# Altium schematic symbol library type_c.SchLib: 1 symbol
Pins are listed as number, name and electrical type; pins without a type are passive.

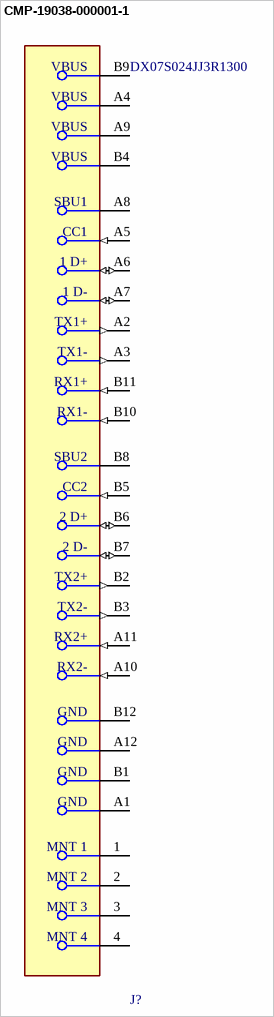
[diagram p0: symbol CMP-19038-000001-1]

## CMP-19038-000001-1
designator J?, comment DX07S024JJ3R1300
CONN RCP USB3.1 TYPEC 24P SMD RA; Connector Type: USB; Gender: Receptacle; Number of Contacts: 24; Features: Shielded; Mount: Surface Mount; Packaging: Tape and Reel
footprint FP-DX07S024JJ3R1300-MFG
pins: 1 MNT 1, 2 MNT 2, 3 MNT 3, 4 MNT 4, A1 GND, A2 TX1+ (out), A3 TX1- (out), A4 VBUS (power), A5 CC1 (in), A6 1 D+ (io), A7 1 D- (io), A8 SBU1, A9 VBUS (power), A10 RX2- (in), A11 RX2+ (in), A12 GND, B1 GND, B2 TX2+ (out), B3 TX2- (out), B4 VBUS (power), B5 CC2 (in), B6 2 D+ (io), B7 2 D- (io), B8 SBU2, B9 VBUS (power), B10 RX1- (in), B11 RX1+ (in), B12 GND